# Altium integrated library Altium_WCAP-CSGP (rev22a).IntLib: 953 symbols (part 15 of 17)
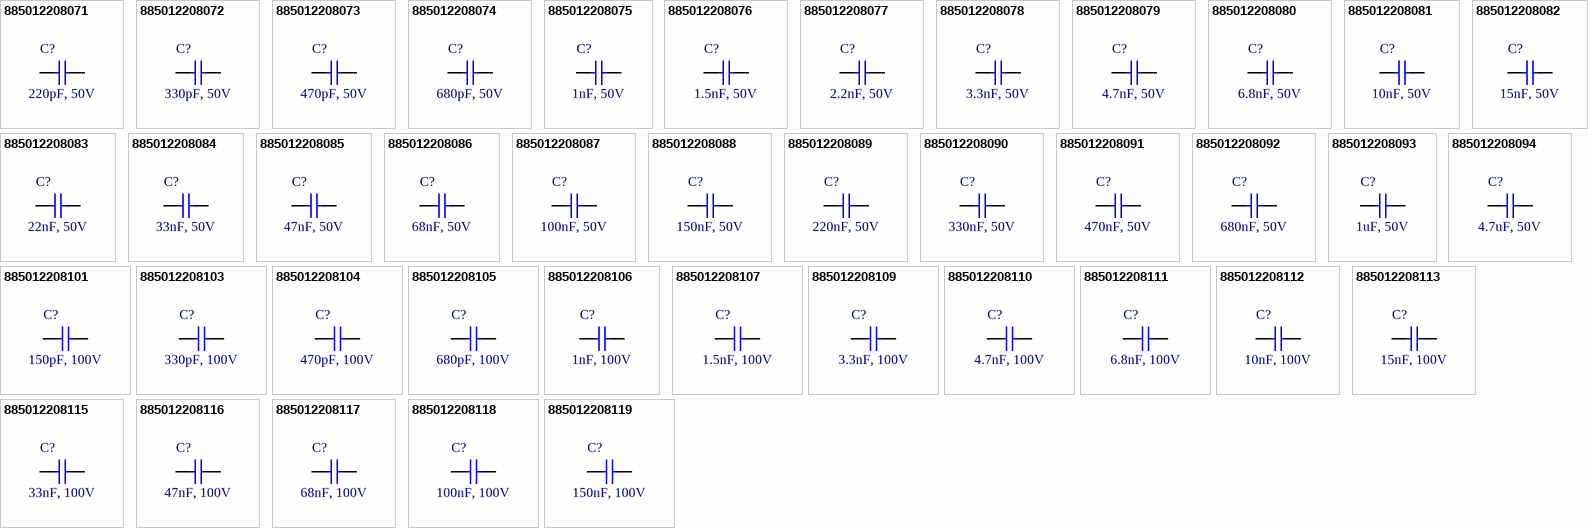
[diagram p41: symbols 885012208071 to 885012208119]

## 885012208119
designator C?, comment 150nF, 100V
WCAP-CSGP Multilayer Ceramic Chip Capacitor, General Purpose, size 1206, X7R, 150nF, 100V; Manufacturer: Wurth Elektronik; Manufacturer Part Number: 885012208119; Capacitance Tolerance: +/-10%; Dissipation Factor: 2.5%; Isolation Resistance: 0.7GOhm; Technical Reference: X7R1206154K100DFCT10000; Capacitance: 150nF; Ceramic Type: X7R; ComponentLink1Description: Manufacturer Link; ComponentLink1URL: http://www.we-online.de; ComponentLink2Description: Datasheet; ComponentLink2URL: https://www.we-online.com/catalog/datasheet/885012208119.pdf; Height: 1.6mm; Length: 3.2mm; Mounting Technology: SMT; Operating Temperature max.: 125C; Operating Temperature min.: -55C; Packaging: Tape and Reel; Rated Voltage: 100V; Size: 1206; Width: 1.6mm
footprint WCAP-CSGP_1206_L3.2W1.6H1.6
pins: 1, 2

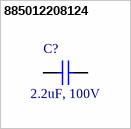
[diagram p22: symbol 885012208124]

## 885012208124
designator C?, comment 2.2uF, 100V
WCAP-CSGP Multilayer Ceramic Chip Capacitor, General Purpose, size 1206, X7R, 2.2uF, 100V; Manufacturer: Wurth Elektronik; Manufacturer Part Number: 885012208124; Capacitance Tolerance: +/-10%; Dissipation Factor: 5%; Isolation Resistance: 0.05GOhm; Technical Reference: X7R1206225K100DFCT10000; Capacitance: 2.2uF; Ceramic Type: X7R; ComponentLink1Description: Manufacturer Link; ComponentLink1URL: http://www.we-online.de; ComponentLink2Description: Datasheet; ComponentLink2URL: https://www.we-online.com/catalog/datasheet/885012208124.pdf; Height: 1.6mm; Length: 3.2mm; Mounting Technology: SMT; Operating Temperature max.: 125C; Operating Temperature min.: -55C; Packaging: Tape and Reel; Rated Voltage: 100V; Size: 1206; Width: 1.6mm
footprint WCAP-CSGP_1206_L3.2W1.6H1.6
pins: 1, 2


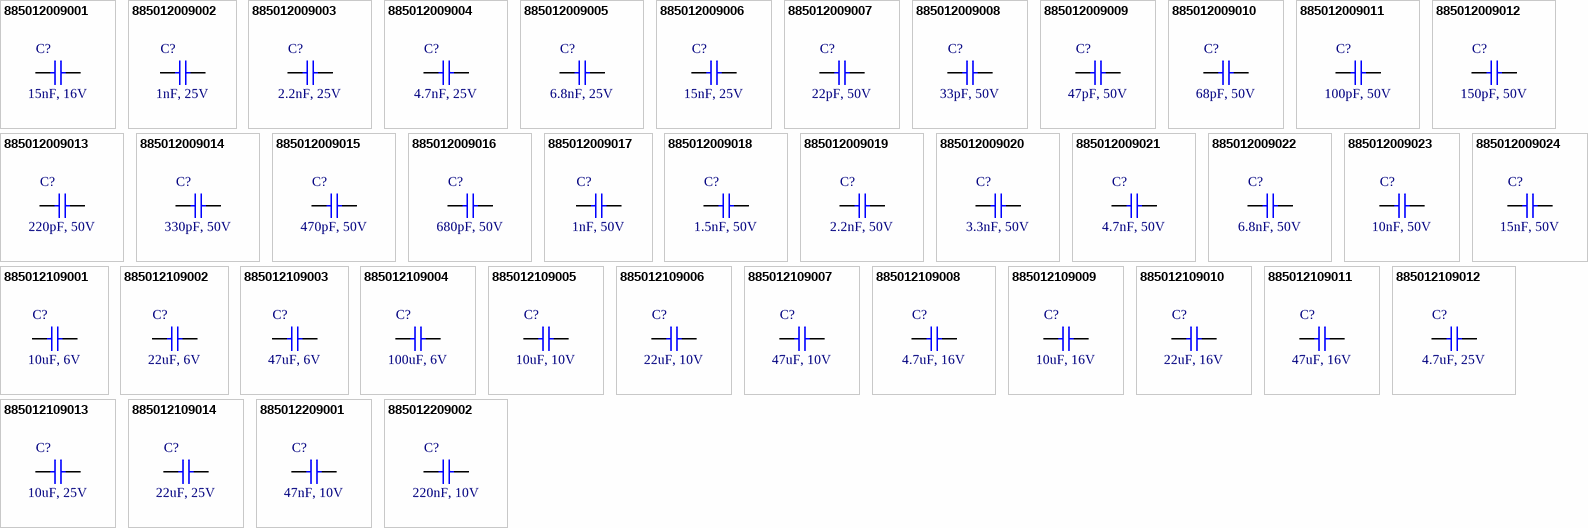
[diagram p23: symbols 885012009001 to 885012209002]

## 885012009001
designator C?, comment 15nF, 16V
WCAP-CSGP Multilayer Ceramic Chip Capacitor, General Purpose, size 1210, NP0, 15nF, 16V; Manufacturer: Wurth Elektronik; Manufacturer Part Number: 885012009001; Capacitance Tolerance: +/-5%; Isolation Resistance: 10GOhm; Q-Factor: 1000; Technical Reference: NP01210153J016DFCT10000; Capacitance: 15nF; Ceramic Type: NP0; ComponentLink1Description: Manufacturer Link; ComponentLink1URL: http://www.we-online.de; ComponentLink2Description: Datasheet; ComponentLink2URL: https://www.we-online.com/catalog/datasheet/885012009001.pdf; Height: 0.95mm; Length: 3.2mm; Mounting Technology: SMT; Operating Temperature max.: 125C; Operating Temperature min.: -55C; Packaging: Tape and Reel; Rated Voltage: 16V; Size: 1210; Width: 2.5mm
footprint WCAP-CSGP_1210_L3.2W2.5H0.95
pins: 1, 2

## 885012009002
designator C?, comment 1nF, 25V
WCAP-CSGP Multilayer Ceramic Chip Capacitor, General Purpose, size 1210, NP0, 1nF, 25V; Manufacturer: Wurth Elektronik; Manufacturer Part Number: 885012009002; Capacitance Tolerance: +/-5%; Isolation Resistance: 10GOhm; Q-Factor: 1000; Technical Reference: NP01210102J025DFCT10000; Capacitance: 1nF; Ceramic Type: NP0; ComponentLink1Description: Manufacturer Link; ComponentLink1URL: http://www.we-online.de; ComponentLink2Description: Datasheet; ComponentLink2URL: https://www.we-online.com/catalog/datasheet/885012009002.pdf; Height: 0.95mm; Length: 3.2mm; Mounting Technology: SMT; Operating Temperature max.: 125C; Operating Temperature min.: -55C; Packaging: Tape and Reel; Rated Voltage: 25V; Size: 1210; Width: 2.5mm
footprint WCAP-CSGP_1210_L3.2W2.5H0.95
pins: 1, 2

## 885012009003
designator C?, comment 2.2nF, 25V
WCAP-CSGP Multilayer Ceramic Chip Capacitor, General Purpose, size 1210, NP0, 2.2nF, 25V; Manufacturer: Wurth Elektronik; Manufacturer Part Number: 885012009003; Capacitance Tolerance: +/-5%; Isolation Resistance: 10GOhm; Q-Factor: 1000; Technical Reference: NP01210222J025DFCT10000; Capacitance: 2.2nF; Ceramic Type: NP0; ComponentLink1Description: Manufacturer Link; ComponentLink1URL: http://www.we-online.de; ComponentLink2Description: Datasheet; ComponentLink2URL: https://www.we-online.com/catalog/datasheet/885012009003.pdf; Height: 0.95mm; Length: 3.2mm; Mounting Technology: SMT; Operating Temperature max.: 125C; Operating Temperature min.: -55C; Packaging: Tape and Reel; Rated Voltage: 25V; Size: 1210; Width: 2.5mm
footprint WCAP-CSGP_1210_L3.2W2.5H0.95
pins: 1, 2

## 885012009004
designator C?, comment 4.7nF, 25V
WCAP-CSGP Multilayer Ceramic Chip Capacitor, General Purpose, size 1210, NP0, 4.7nF, 25V; Manufacturer: Wurth Elektronik; Manufacturer Part Number: 885012009004; Capacitance Tolerance: +/-5%; Isolation Resistance: 10GOhm; Q-Factor: 1000; Technical Reference: NP01210472J025DFCT10000; Capacitance: 4.7nF; Ceramic Type: NP0; ComponentLink1Description: Manufacturer Link; ComponentLink1URL: http://www.we-online.de; ComponentLink2Description: Datasheet; ComponentLink2URL: https://www.we-online.com/catalog/datasheet/885012009004.pdf; Height: 0.95mm; Length: 3.2mm; Mounting Technology: SMT; Operating Temperature max.: 125C; Operating Temperature min.: -55C; Packaging: Tape and Reel; Rated Voltage: 25V; Size: 1210; Width: 2.5mm
footprint WCAP-CSGP_1210_L3.2W2.5H0.95
pins: 1, 2

## 885012009005
designator C?, comment 6.8nF, 25V
WCAP-CSGP Multilayer Ceramic Chip Capacitor, General Purpose, size 1210, NP0, 6.8nF, 25V; Manufacturer: Wurth Elektronik; Manufacturer Part Number: 885012009005; Capacitance Tolerance: +/-5%; Isolation Resistance: 10GOhm; Q-Factor: 1000; Technical Reference: NP01210682J025DFCT10000; Capacitance: 6.8nF; Ceramic Type: NP0; ComponentLink1Description: Manufacturer Link; ComponentLink1URL: http://www.we-online.de; ComponentLink2Description: Datasheet; ComponentLink2URL: https://www.we-online.com/catalog/datasheet/885012009005.pdf; Height: 0.95mm; Length: 3.2mm; Mounting Technology: SMT; Operating Temperature max.: 125C; Operating Temperature min.: -55C; Packaging: Tape and Reel; Rated Voltage: 25V; Size: 1210; Width: 2.5mm
footprint WCAP-CSGP_1210_L3.2W2.5H0.95
pins: 1, 2

## 885012009006
designator C?, comment 15nF, 25V
WCAP-CSGP Multilayer Ceramic Chip Capacitor, General Purpose, size 1210, NP0, 15nF, 25V; Manufacturer: Wurth Elektronik; Manufacturer Part Number: 885012009006; Capacitance Tolerance: +/-5%; Isolation Resistance: 10GOhm; Q-Factor: 1000; Technical Reference: NP01210153J025DFCT10000; Capacitance: 15nF; Ceramic Type: NP0; ComponentLink1Description: Manufacturer Link; ComponentLink1URL: http://www.we-online.de; ComponentLink2Description: Datasheet; ComponentLink2URL: https://www.we-online.com/catalog/datasheet/885012009006.pdf; Height: 1.25mm; Length: 3.2mm; Mounting Technology: SMT; Operating Temperature max.: 125C; Operating Temperature min.: -55C; Packaging: Tape and Reel; Rated Voltage: 25V; Size: 1210; Width: 2.5mm
footprint WCAP-CSGP_1210_L3.2W2.5H1.25
pins: 1, 2

## 885012009007
designator C?, comment 22pF, 50V
WCAP-CSGP Multilayer Ceramic Chip Capacitor, General Purpose, size 1210, NP0, 22pF, 50V; Manufacturer: Wurth Elektronik; Manufacturer Part Number: 885012009007; Capacitance Tolerance: +/-5%; Isolation Resistance: 10GOhm; Q-Factor: 840; Technical Reference: NP01210220J050DFCT10000; Capacitance: 22pF; Ceramic Type: NP0; ComponentLink1Description: Manufacturer Link; ComponentLink1URL: http://www.we-online.de; ComponentLink2Description: Datasheet; ComponentLink2URL: https://www.we-online.com/catalog/datasheet/885012009007.pdf; Height: 0.95mm; Length: 3.2mm; Mounting Technology: SMT; Operating Temperature max.: 125C; Operating Temperature min.: -55C; Packaging: Tape and Reel; Rated Voltage: 50V; Size: 1210; Width: 2.5mm
footprint WCAP-CSGP_1210_L3.2W2.5H0.95
pins: 1, 2

## 885012009008
designator C?, comment 33pF, 50V
WCAP-CSGP Multilayer Ceramic Chip Capacitor, General Purpose, size 1210, NP0, 33pF, 50V; Manufacturer: Wurth Elektronik; Manufacturer Part Number: 885012009008; Capacitance Tolerance: +/-5%; Isolation Resistance: 10GOhm; Q-Factor: 1000; Technical Reference: NP01210330J050DFCT10000; Capacitance: 33pF; Ceramic Type: NP0; ComponentLink1Description: Manufacturer Link; ComponentLink1URL: http://www.we-online.de; ComponentLink2Description: Datasheet; ComponentLink2URL: https://www.we-online.com/catalog/datasheet/885012009008.pdf; Height: 0.95mm; Length: 3.2mm; Mounting Technology: SMT; Operating Temperature max.: 125C; Operating Temperature min.: -55C; Packaging: Tape and Reel; Rated Voltage: 50V; Size: 1210; Width: 2.5mm
footprint WCAP-CSGP_1210_L3.2W2.5H0.95
pins: 1, 2

## 885012009009
designator C?, comment 47pF, 50V
WCAP-CSGP Multilayer Ceramic Chip Capacitor, General Purpose, size 1210, NP0, 47pF, 50V; Manufacturer: Wurth Elektronik; Manufacturer Part Number: 885012009009; Capacitance Tolerance: +/-5%; Isolation Resistance: 10GOhm; Q-Factor: 1000; Technical Reference: NP01210470J050DFCT10000; Capacitance: 47pF; Ceramic Type: NP0; ComponentLink1Description: Manufacturer Link; ComponentLink1URL: http://www.we-online.de; ComponentLink2Description: Datasheet; ComponentLink2URL: https://www.we-online.com/catalog/datasheet/885012009009.pdf; Height: 0.95mm; Length: 3.2mm; Mounting Technology: SMT; Operating Temperature max.: 125C; Operating Temperature min.: -55C; Packaging: Tape and Reel; Rated Voltage: 50V; Size: 1210; Width: 2.5mm
footprint WCAP-CSGP_1210_L3.2W2.5H0.95
pins: 1, 2

## 885012009010
designator C?, comment 68pF, 50V
WCAP-CSGP Multilayer Ceramic Chip Capacitor, General Purpose, size 1210, NP0, 68pF, 50V; Manufacturer: Wurth Elektronik; Manufacturer Part Number: 885012009010; Capacitance Tolerance: +/-5%; Isolation Resistance: 10GOhm; Q-Factor: 1000; Technical Reference: NP01210680J050DFCT10000; Capacitance: 68pF; Ceramic Type: NP0; ComponentLink1Description: Manufacturer Link; ComponentLink1URL: http://www.we-online.de; ComponentLink2Description: Datasheet; ComponentLink2URL: https://www.we-online.com/catalog/datasheet/885012009010.pdf; Height: 0.95mm; Length: 3.2mm; Mounting Technology: SMT; Operating Temperature max.: 125C; Operating Temperature min.: -55C; Packaging: Tape and Reel; Rated Voltage: 50V; Size: 1210; Width: 2.5mm
footprint WCAP-CSGP_1210_L3.2W2.5H0.95
pins: 1, 2

## 885012009011
designator C?, comment 100pF, 50V
WCAP-CSGP Multilayer Ceramic Chip Capacitor, General Purpose, size 1210, NP0, 100pF, 50V; Manufacturer: Wurth Elektronik; Manufacturer Part Number: 885012009011; Capacitance Tolerance: +/-5%; Isolation Resistance: 10GOhm; Q-Factor: 1000; Technical Reference: NP01210101J050DFCT10000; Capacitance: 100pF; Ceramic Type: NP0; ComponentLink1Description: Manufacturer Link; ComponentLink1URL: http://www.we-online.de; ComponentLink2Description: Datasheet; ComponentLink2URL: https://www.we-online.com/catalog/datasheet/885012009011.pdf; Height: 0.95mm; Length: 3.2mm; Mounting Technology: SMT; Operating Temperature max.: 125C; Operating Temperature min.: -55C; Packaging: Tape and Reel; Rated Voltage: 50V; Size: 1210; Width: 2.5mm
footprint WCAP-CSGP_1210_L3.2W2.5H0.95
pins: 1, 2

## 885012009012
designator C?, comment 150pF, 50V
WCAP-CSGP Multilayer Ceramic Chip Capacitor, General Purpose, size 1210, NP0, 150pF, 50V; Manufacturer: Wurth Elektronik; Manufacturer Part Number: 885012009012; Capacitance Tolerance: +/-5%; Isolation Resistance: 10GOhm; Q-Factor: 1000; Technical Reference: NP01210151J050DFCT10000; Capacitance: 150pF; Ceramic Type: NP0; ComponentLink1Description: Manufacturer Link; ComponentLink1URL: http://www.we-online.de; ComponentLink2Description: Datasheet; ComponentLink2URL: https://www.we-online.com/catalog/datasheet/885012009012.pdf; Height: 0.95mm; Length: 3.2mm; Mounting Technology: SMT; Operating Temperature max.: 125C; Operating Temperature min.: -55C; Packaging: Tape and Reel; Rated Voltage: 50V; Size: 1210; Width: 2.5mm
footprint WCAP-CSGP_1210_L3.2W2.5H0.95
pins: 1, 2

## 885012009013
designator C?, comment 220pF, 50V
WCAP-CSGP Multilayer Ceramic Chip Capacitor, General Purpose, size 1210, NP0, 220pF, 50V; Manufacturer: Wurth Elektronik; Manufacturer Part Number: 885012009013; Capacitance Tolerance: +/-5%; Isolation Resistance: 10GOhm; Q-Factor: 1000; Technical Reference: NP01210221J050DFCT10000; Capacitance: 220pF; Ceramic Type: NP0; ComponentLink1Description: Manufacturer Link; ComponentLink1URL: http://www.we-online.de; ComponentLink2Description: Datasheet; ComponentLink2URL: https://www.we-online.com/catalog/datasheet/885012009013.pdf; Height: 0.95mm; Length: 3.2mm; Mounting Technology: SMT; Operating Temperature max.: 125C; Operating Temperature min.: -55C; Packaging: Tape and Reel; Rated Voltage: 50V; Size: 1210; Width: 2.5mm
footprint WCAP-CSGP_1210_L3.2W2.5H0.95
pins: 1, 2

## 885012009014
designator C?, comment 330pF, 50V
WCAP-CSGP Multilayer Ceramic Chip Capacitor, General Purpose, size 1210, NP0, 330pF, 50V; Manufacturer: Wurth Elektronik; Manufacturer Part Number: 885012009014; Capacitance Tolerance: +/-5%; Isolation Resistance: 10GOhm; Q-Factor: 1000; Technical Reference: NP01210331J050DFCT10000; Capacitance: 330pF; Ceramic Type: NP0; ComponentLink1Description: Manufacturer Link; ComponentLink1URL: http://www.we-online.de; ComponentLink2Description: Datasheet; ComponentLink2URL: https://www.we-online.com/catalog/datasheet/885012009014.pdf; Height: 0.95mm; Length: 3.2mm; Mounting Technology: SMT; Operating Temperature max.: 125C; Operating Temperature min.: -55C; Packaging: Tape and Reel; Rated Voltage: 50V; Size: 1210; Width: 2.5mm
footprint WCAP-CSGP_1210_L3.2W2.5H0.95
pins: 1, 2

## 885012009015
designator C?, comment 470pF, 50V
WCAP-CSGP Multilayer Ceramic Chip Capacitor, General Purpose, size 1210, NP0, 470pF, 50V; Manufacturer: Wurth Elektronik; Manufacturer Part Number: 885012009015; Capacitance Tolerance: +/-5%; Isolation Resistance: 10GOhm; Q-Factor: 1000; Technical Reference: NP01210471J050DFCT10000; Capacitance: 470pF; Ceramic Type: NP0; ComponentLink1Description: Manufacturer Link; ComponentLink1URL: http://www.we-online.de; ComponentLink2Description: Datasheet; ComponentLink2URL: https://www.we-online.com/catalog/datasheet/885012009015.pdf; Height: 0.95mm; Length: 3.2mm; Mounting Technology: SMT; Operating Temperature max.: 125C; Operating Temperature min.: -55C; Packaging: Tape and Reel; Rated Voltage: 50V; Size: 1210; Width: 2.5mm
footprint WCAP-CSGP_1210_L3.2W2.5H0.95
pins: 1, 2

## 885012009016
designator C?, comment 680pF, 50V
WCAP-CSGP Multilayer Ceramic Chip Capacitor, General Purpose, size 1210, NP0, 680pF, 50V; Manufacturer: Wurth Elektronik; Manufacturer Part Number: 885012009016; Capacitance Tolerance: +/-5%; Isolation Resistance: 10GOhm; Q-Factor: 1000; Technical Reference: NP01210681J050DFCT10000; Capacitance: 680pF; Ceramic Type: NP0; ComponentLink1Description: Manufacturer Link; ComponentLink1URL: http://www.we-online.de; ComponentLink2Description: Datasheet; ComponentLink2URL: https://www.we-online.com/catalog/datasheet/885012009016.pdf; Height: 0.95mm; Length: 3.2mm; Mounting Technology: SMT; Operating Temperature max.: 125C; Operating Temperature min.: -55C; Packaging: Tape and Reel; Rated Voltage: 50V; Size: 1210; Width: 2.5mm
footprint WCAP-CSGP_1210_L3.2W2.5H0.95
pins: 1, 2

## 885012009017
designator C?, comment 1nF, 50V
WCAP-CSGP Multilayer Ceramic Chip Capacitor, General Purpose, size 1210, NP0, 1nF, 50V; Manufacturer: Wurth Elektronik; Manufacturer Part Number: 885012009017; Capacitance Tolerance: +/-5%; Isolation Resistance: 10GOhm; Q-Factor: 1000; Technical Reference: NP01210102J050DFCT10000; Capacitance: 1nF; Ceramic Type: NP0; ComponentLink1Description: Manufacturer Link; ComponentLink1URL: http://www.we-online.de; ComponentLink2Description: Datasheet; ComponentLink2URL: https://www.we-online.com/catalog/datasheet/885012009017.pdf; Height: 0.95mm; Length: 3.2mm; Mounting Technology: SMT; Operating Temperature max.: 125C; Operating Temperature min.: -55C; Packaging: Tape and Reel; Rated Voltage: 50V; Size: 1210; Width: 2.5mm
footprint WCAP-CSGP_1210_L3.2W2.5H0.95
pins: 1, 2

## 885012009018
designator C?, comment 1.5nF, 50V
WCAP-CSGP Multilayer Ceramic Chip Capacitor, General Purpose, size 1210, NP0, 1.5nF, 50V; Manufacturer: Wurth Elektronik; Manufacturer Part Number: 885012009018; Capacitance Tolerance: +/-5%; Isolation Resistance: 10GOhm; Q-Factor: 1000; Technical Reference: NP01210152J050DFCT10000; Capacitance: 1.5nF; Ceramic Type: NP0; ComponentLink1Description: Manufacturer Link; ComponentLink1URL: http://www.we-online.de; ComponentLink2Description: Datasheet; ComponentLink2URL: https://www.we-online.com/catalog/datasheet/885012009018.pdf; Height: 0.95mm; Length: 3.2mm; Mounting Technology: SMT; Operating Temperature max.: 125C; Operating Temperature min.: -55C; Packaging: Tape and Reel; Rated Voltage: 50V; Size: 1210; Width: 2.5mm
footprint WCAP-CSGP_1210_L3.2W2.5H0.95
pins: 1, 2

## 885012009019
designator C?, comment 2.2nF, 50V
WCAP-CSGP Multilayer Ceramic Chip Capacitor, General Purpose, size 1210, NP0, 2.2nF, 50V; Manufacturer: Wurth Elektronik; Manufacturer Part Number: 885012009019; Capacitance Tolerance: +/-5%; Isolation Resistance: 10GOhm; Q-Factor: 1000; Technical Reference: NP01210222J050DFCT10000; Capacitance: 2.2nF; Ceramic Type: NP0; ComponentLink1Description: Manufacturer Link; ComponentLink1URL: http://www.we-online.de; ComponentLink2Description: Datasheet; ComponentLink2URL: https://www.we-online.com/catalog/datasheet/885012009019.pdf; Height: 0.95mm; Length: 3.2mm; Mounting Technology: SMT; Operating Temperature max.: 125C; Operating Temperature min.: -55C; Packaging: Tape and Reel; Rated Voltage: 50V; Size: 1210; Width: 2.5mm
footprint WCAP-CSGP_1210_L3.2W2.5H0.95
pins: 1, 2

## 885012009020
designator C?, comment 3.3nF, 50V
WCAP-CSGP Multilayer Ceramic Chip Capacitor, General Purpose, size 1210, NP0, 3.3nF, 50V; Manufacturer: Wurth Elektronik; Manufacturer Part Number: 885012009020; Capacitance Tolerance: +/-5%; Isolation Resistance: 10GOhm; Q-Factor: 1000; Technical Reference: NP01210332J050DFCT10000; Capacitance: 3.3nF; Ceramic Type: NP0; ComponentLink1Description: Manufacturer Link; ComponentLink1URL: http://www.we-online.de; ComponentLink2Description: Datasheet; ComponentLink2URL: https://www.we-online.com/catalog/datasheet/885012009020.pdf; Height: 0.95mm; Length: 3.2mm; Mounting Technology: SMT; Operating Temperature max.: 125C; Operating Temperature min.: -55C; Packaging: Tape and Reel; Rated Voltage: 50V; Size: 1210; Width: 2.5mm
footprint WCAP-CSGP_1210_L3.2W2.5H0.95
pins: 1, 2

## 885012009021
designator C?, comment 4.7nF, 50V
WCAP-CSGP Multilayer Ceramic Chip Capacitor, General Purpose, size 1210, NP0, 4.7nF, 50V; Manufacturer: Wurth Elektronik; Manufacturer Part Number: 885012009021; Capacitance Tolerance: +/-5%; Isolation Resistance: 10GOhm; Q-Factor: 1000; Technical Reference: NP01210472J050DFCT10000; Capacitance: 4.7nF; Ceramic Type: NP0; ComponentLink1Description: Manufacturer Link; ComponentLink1URL: http://www.we-online.de; ComponentLink2Description: Datasheet; ComponentLink2URL: https://www.we-online.com/catalog/datasheet/885012009021.pdf; Height: 0.95mm; Length: 3.2mm; Mounting Technology: SMT; Operating Temperature max.: 125C; Operating Temperature min.: -55C; Packaging: Tape and Reel; Rated Voltage: 50V; Size: 1210; Width: 2.5mm
footprint WCAP-CSGP_1210_L3.2W2.5H0.95
pins: 1, 2

## 885012009022
designator C?, comment 6.8nF, 50V
WCAP-CSGP Multilayer Ceramic Chip Capacitor, General Purpose, size 1210, NP0, 6.8nF, 50V; Manufacturer: Wurth Elektronik; Manufacturer Part Number: 885012009022; Capacitance Tolerance: +/-5%; Isolation Resistance: 10GOhm; Q-Factor: 1000; Technical Reference: NP01210682J050DFCT10000; Capacitance: 6.8nF; Ceramic Type: NP0; ComponentLink1Description: Manufacturer Link; ComponentLink1URL: http://www.we-online.de; ComponentLink2Description: Datasheet; ComponentLink2URL: https://www.we-online.com/catalog/datasheet/885012009022.pdf; Height: 0.95mm; Length: 3.2mm; Mounting Technology: SMT; Operating Temperature max.: 125C; Operating Temperature min.: -55C; Packaging: Tape and Reel; Rated Voltage: 50V; Size: 1210; Width: 2.5mm
footprint WCAP-CSGP_1210_L3.2W2.5H0.95
pins: 1, 2

## 885012009023
designator C?, comment 10nF, 50V
WCAP-CSGP Multilayer Ceramic Chip Capacitor, General Purpose, size 1210, NP0, 10nF, 50V; Manufacturer: Wurth Elektronik; Manufacturer Part Number: 885012009023; Capacitance Tolerance: +/-5%; Isolation Resistance: 10GOhm; Q-Factor: 1000; Technical Reference: NP01210103J050DFCT10000; Capacitance: 10nF; Ceramic Type: NP0; ComponentLink1Description: Manufacturer Link; ComponentLink1URL: http://www.we-online.de; ComponentLink2Description: Datasheet; ComponentLink2URL: https://www.we-online.com/catalog/datasheet/885012009023.pdf; Height: 0.95mm; Length: 3.2mm; Mounting Technology: SMT; Operating Temperature max.: 125C; Operating Temperature min.: -55C; Packaging: Tape and Reel; Rated Voltage: 50V; Size: 1210; Width: 2.5mm
footprint WCAP-CSGP_1210_L3.2W2.5H0.95
pins: 1, 2

## 885012009024
designator C?, comment 15nF, 50V
WCAP-CSGP Multilayer Ceramic Chip Capacitor, General Purpose, size 1210, NP0, 15nF, 50V; Manufacturer: Wurth Elektronik; Manufacturer Part Number: 885012009024; Capacitance Tolerance: +/-5%; Isolation Resistance: 10GOhm; Q-Factor: 1000; Technical Reference: NP01210153J050DFCT10000; Capacitance: 15nF; Ceramic Type: NP0; ComponentLink1Description: Manufacturer Link; ComponentLink1URL: http://www.we-online.de; ComponentLink2Description: Datasheet; ComponentLink2URL: https://www.we-online.com/catalog/datasheet/885012009024.pdf; Height: 1.25mm; Length: 3.2mm; Mounting Technology: SMT; Operating Temperature max.: 125C; Operating Temperature min.: -55C; Packaging: Tape and Reel; Rated Voltage: 50V; Size: 1210; Width: 2.5mm
footprint WCAP-CSGP_1210_L3.2W2.5H1.25
pins: 1, 2

## 885012109001
designator C?, comment 10uF, 6V
WCAP-CSGP Multilayer Ceramic Chip Capacitor, General Purpose, size 1210, X5R, 10uF, 6V; Manufacturer: Wurth Elektronik; Manufacturer Part Number: 885012109001; Capacitance Tolerance: +/-20%; Dissipation Factor: 10%; Isolation Resistance: 0.01GOhm; Technical Reference: X5R1210106M6R3DFCT10000; Capacitance: 10uF; Ceramic Type: X5R; ComponentLink1Description: Manufacturer Link; ComponentLink1URL: http://www.we-online.de; ComponentLink2Description: Datasheet; ComponentLink2URL: https://www.we-online.com/catalog/datasheet/885012109001.pdf; Height: 2mm; Length: 3.2mm; Mounting Technology: SMT; Operating Temperature max.: 85C; Operating Temperature min.: -55C; Packaging: Tape and Reel; Rated Voltage: 6V; Size: 1210; Width: 2.5mm
footprint WCAP-CSGP_1210_L3.2W2.5H2
pins: 1, 2

## 885012109002
designator C?, comment 22uF, 6V
WCAP-CSGP Multilayer Ceramic Chip Capacitor, General Purpose, size 1210, X5R, 22uF, 6V; Manufacturer: Wurth Elektronik; Manufacturer Part Number: 885012109002; Capacitance Tolerance: +/-20%; Dissipation Factor: 5%; Isolation Resistance: 0.02GOhm; Technical Reference: X5R1210226M6R3DFCT10000; Capacitance: 22uF; Ceramic Type: X5R; ComponentLink1Description: Manufacturer Link; ComponentLink1URL: http://www.we-online.de; ComponentLink2Description: Datasheet; ComponentLink2URL: https://www.we-online.com/catalog/datasheet/885012109002.pdf; Height: 2.5mm; Length: 3.2mm; Mounting Technology: SMT; Operating Temperature max.: 85C; Operating Temperature min.: -55C; Packaging: Tape and Reel; Rated Voltage: 6V; Size: 1210; Width: 2.5mm
footprint WCAP-CSGP_1210_L3.2W2.5H2.5
pins: 1, 2

## 885012109003
designator C?, comment 47uF, 6V
WCAP-CSGP Multilayer Ceramic Chip Capacitor, General Purpose, size 1210, X5R, 47uF, 6V; Manufacturer: Wurth Elektronik; Manufacturer Part Number: 885012109003; Capacitance Tolerance: +/-20%; Dissipation Factor: 10%; Isolation Resistance: 0.002GOhm; Technical Reference: X5R1210476M6R3DFCT10000; Capacitance: 47uF; Ceramic Type: X5R; ComponentLink1Description: Manufacturer Link; ComponentLink1URL: http://www.we-online.de; ComponentLink2Description: Datasheet; ComponentLink2URL: https://www.we-online.com/catalog/datasheet/885012109003.pdf; Height: 2.5mm; Length: 3.2mm; Mounting Technology: SMT; Operating Temperature max.: 85C; Operating Temperature min.: -55C; Packaging: Tape and Reel; Rated Voltage: 6V; Size: 1210; Width: 2.5mm
footprint WCAP-CSGP_1210_L3.2W2.5H2.5
pins: 1, 2

## 885012109004
designator C?, comment 100uF, 6V
WCAP-CSGP Multilayer Ceramic Chip Capacitor, General Purpose, size 1210, X5R, 100uF, 6V; Manufacturer: Wurth Elektronik; Manufacturer Part Number: 885012109004; Capacitance Tolerance: +/-20%; Dissipation Factor: 10%; Isolation Resistance: 0.001GOhm; Technical Reference: X5R1210107M6R3DFCT10000; Capacitance: 100uF; Ceramic Type: X5R; ComponentLink1Description: Manufacturer Link; ComponentLink1URL: http://www.we-online.de; ComponentLink2Description: Datasheet; ComponentLink2URL: https://www.we-online.com/catalog/datasheet/885012109004.pdf; Height: 2.5mm; Length: 3.2mm; Mounting Technology: SMT; Operating Temperature max.: 85C; Operating Temperature min.: -55C; Packaging: Tape and Reel; Rated Voltage: 6V; Size: 1210; Width: 2.5mm
footprint WCAP-CSGP_1210_L3.2W2.5H2.5
pins: 1, 2

## 885012109005
designator C?, comment 10uF, 10V
WCAP-CSGP Multilayer Ceramic Chip Capacitor, General Purpose, size 1210, X5R, 10uF, 10V; Manufacturer: Wurth Elektronik; Manufacturer Part Number: 885012109005; Capacitance Tolerance: +/-20%; Dissipation Factor: 5%; Isolation Resistance: 0.05GOhm; Technical Reference: X5R1210106M010DFCT10000; Capacitance: 10uF; Ceramic Type: X5R; ComponentLink1Description: Manufacturer Link; ComponentLink1URL: http://www.we-online.de; ComponentLink2Description: Datasheet; ComponentLink2URL: https://www.we-online.com/catalog/datasheet/885012109005.pdf; Height: 2mm; Length: 3.2mm; Mounting Technology: SMT; Operating Temperature max.: 85C; Operating Temperature min.: -55C; Packaging: Tape and Reel; Rated Voltage: 10V; Size: 1210; Width: 2.5mm
footprint WCAP-CSGP_1210_L3.2W2.5H2
pins: 1, 2

## 885012109006
designator C?, comment 22uF, 10V
WCAP-CSGP Multilayer Ceramic Chip Capacitor, General Purpose, size 1210, X5R, 22uF, 10V; Manufacturer: Wurth Elektronik; Manufacturer Part Number: 885012109006; Capacitance Tolerance: +/-20%; Dissipation Factor: 5%; Isolation Resistance: 0.02GOhm; Technical Reference: X5R1210226M010DFCT10000; Capacitance: 22uF; Ceramic Type: X5R; ComponentLink1Description: Manufacturer Link; ComponentLink1URL: http://www.we-online.de; ComponentLink2Description: Datasheet; ComponentLink2URL: https://www.we-online.com/catalog/datasheet/885012109006.pdf; Height: 2.5mm; Length: 3.2mm; Mounting Technology: SMT; Operating Temperature max.: 85C; Operating Temperature min.: -55C; Packaging: Tape and Reel; Rated Voltage: 10V; Size: 1210; Width: 2.5mm
footprint WCAP-CSGP_1210_L3.2W2.5H2.5
pins: 1, 2

## 885012109007
designator C?, comment 47uF, 10V
WCAP-CSGP Multilayer Ceramic Chip Capacitor, General Purpose, size 1210, X5R, 47uF, 10V; Manufacturer: Wurth Elektronik; Manufacturer Part Number: 885012109007; Capacitance Tolerance: +/-20%; Dissipation Factor: 10%; Isolation Resistance: 0.002GOhm; Technical Reference: X5R1210476M010DFCT10000; Capacitance: 47uF; Ceramic Type: X5R; ComponentLink1Description: Manufacturer Link; ComponentLink1URL: http://www.we-online.de; ComponentLink2Description: Datasheet; ComponentLink2URL: https://www.we-online.com/catalog/datasheet/885012109007.pdf; Height: 2.5mm; Length: 3.2mm; Mounting Technology: SMT; Operating Temperature max.: 85C; Operating Temperature min.: -55C; Packaging: Tape and Reel; Rated Voltage: 10V; Size: 1210; Width: 2.5mm
footprint WCAP-CSGP_1210_L3.2W2.5H2.5
pins: 1, 2

## 885012109008
designator C?, comment 4.7uF, 16V
WCAP-CSGP Multilayer Ceramic Chip Capacitor, General Purpose, size 1210, X5R, 4.7uF, 16V; Manufacturer: Wurth Elektronik; Manufacturer Part Number: 885012109008; Capacitance Tolerance: +/-20%; Dissipation Factor: 5%; Isolation Resistance: 0.1GOhm; Technical Reference: X5R1210475M016DFCT10000; Capacitance: 4.7uF; Ceramic Type: X5R; ComponentLink1Description: Manufacturer Link; ComponentLink1URL: http://www.we-online.de; ComponentLink2Description: Datasheet; ComponentLink2URL: https://www.we-online.com/catalog/datasheet/885012109008.pdf; Height: 2mm; Length: 3.2mm; Mounting Technology: SMT; Operating Temperature max.: 85C; Operating Temperature min.: -55C; Packaging: Tape and Reel; Rated Voltage: 16V; Size: 1210; Width: 2.5mm
footprint WCAP-CSGP_1210_L3.2W2.5H2
pins: 1, 2

## 885012109009
designator C?, comment 10uF, 16V
WCAP-CSGP Multilayer Ceramic Chip Capacitor, General Purpose, size 1210, X5R, 10uF, 16V; Manufacturer: Wurth Elektronik; Manufacturer Part Number: 885012109009; Capacitance Tolerance: +/-20%; Dissipation Factor: 5%; Isolation Resistance: 0.05GOhm; Technical Reference: X5R1210106M016DFCT10000; Capacitance: 10uF; Ceramic Type: X5R; ComponentLink1Description: Manufacturer Link; ComponentLink1URL: http://www.we-online.de; ComponentLink2Description: Datasheet; ComponentLink2URL: https://www.we-online.com/catalog/datasheet/885012109009.pdf; Height: 2mm; Length: 3.2mm; Mounting Technology: SMT; Operating Temperature max.: 85C; Operating Temperature min.: -55C; Packaging: Tape and Reel; Rated Voltage: 16V; Size: 1210; Width: 2.5mm
footprint WCAP-CSGP_1210_L3.2W2.5H2
pins: 1, 2

## 885012109010
designator C?, comment 22uF, 16V
WCAP-CSGP Multilayer Ceramic Chip Capacitor, General Purpose, size 1210, X5R, 22uF, 16V; Manufacturer: Wurth Elektronik; Manufacturer Part Number: 885012109010; Capacitance Tolerance: +/-20%; Dissipation Factor: 5%; Isolation Resistance: 0.02GOhm; Technical Reference: X5R1210226M016DFCT10000; Capacitance: 22uF; Ceramic Type: X5R; ComponentLink1Description: Manufacturer Link; ComponentLink1URL: http://www.we-online.de; ComponentLink2Description: Datasheet; ComponentLink2URL: https://www.we-online.com/catalog/datasheet/885012109010.pdf; Height: 2.5mm; Length: 3.2mm; Mounting Technology: SMT; Operating Temperature max.: 85C; Operating Temperature min.: -55C; Packaging: Tape and Reel; Rated Voltage: 16V; Size: 1210; Width: 2.5mm
footprint WCAP-CSGP_1210_L3.2W2.5H2.5
pins: 1, 2

## 885012109011
designator C?, comment 47uF, 16V
WCAP-CSGP Multilayer Ceramic Chip Capacitor, General Purpose, size 1210, X5R, 47uF, 16V; Manufacturer: Wurth Elektronik; Manufacturer Part Number: 885012109011; Capacitance Tolerance: +/-20%; Dissipation Factor: 10%; Isolation Resistance: 0.002GOhm; Technical Reference: X5R1210476M016DFCT10000; Capacitance: 47uF; Ceramic Type: X5R; ComponentLink1Description: Manufacturer Link; ComponentLink1URL: http://www.we-online.de; ComponentLink2Description: Datasheet; ComponentLink2URL: https://www.we-online.com/catalog/datasheet/885012109011.pdf; Height: 2.5mm; Length: 3.2mm; Mounting Technology: SMT; Operating Temperature max.: 85C; Operating Temperature min.: -55C; Packaging: Tape and Reel; Rated Voltage: 16V; Size: 1210; Width: 2.5mm
footprint WCAP-CSGP_1210_L3.2W2.5H2.5
pins: 1, 2

## 885012109012
designator C?, comment 4.7uF, 25V
WCAP-CSGP Multilayer Ceramic Chip Capacitor, General Purpose, size 1210, X5R, 4.7uF, 25V; Manufacturer: Wurth Elektronik; Manufacturer Part Number: 885012109012; Capacitance Tolerance: +/-20%; Dissipation Factor: 3.5%; Isolation Resistance: 0.1GOhm; Technical Reference: X5R1210475M025DFCT10000; Capacitance: 4.7uF; Ceramic Type: X5R; ComponentLink1Description: Manufacturer Link; ComponentLink1URL: http://www.we-online.de; ComponentLink2Description: Datasheet; ComponentLink2URL: https://www.we-online.com/catalog/datasheet/885012109012.pdf; Height: 2mm; Length: 3.2mm; Mounting Technology: SMT; Operating Temperature max.: 85C; Operating Temperature min.: -55C; Packaging: Tape and Reel; Rated Voltage: 25V; Size: 1210; Width: 2.5mm
footprint WCAP-CSGP_1210_L3.2W2.5H2
pins: 1, 2

## 885012109013
designator C?, comment 10uF, 25V
WCAP-CSGP Multilayer Ceramic Chip Capacitor, General Purpose, size 1210, X5R, 10uF, 25V; Manufacturer: Wurth Elektronik; Manufacturer Part Number: 885012109013; Capacitance Tolerance: +/-20%; Dissipation Factor: 10%; Isolation Resistance: 0.01GOhm; Technical Reference: X5R1210106M025DFCT10000; Capacitance: 10uF; Ceramic Type: X5R; ComponentLink1Description: Manufacturer Link; ComponentLink1URL: http://www.we-online.de; ComponentLink2Description: Datasheet; ComponentLink2URL: https://www.we-online.com/catalog/datasheet/885012109013.pdf; Height: 2mm; Length: 3.2mm; Mounting Technology: SMT; Operating Temperature max.: 85C; Operating Temperature min.: -55C; Packaging: Tape and Reel; Rated Voltage: 25V; Size: 1210; Width: 2.5mm
footprint WCAP-CSGP_1210_L3.2W2.5H2
pins: 1, 2

## 885012109014
designator C?, comment 22uF, 25V
WCAP-CSGP Multilayer Ceramic Chip Capacitor, General Purpose, size 1210, X5R, 22uF, 25V; Manufacturer: Wurth Elektronik; Manufacturer Part Number: 885012109014; Capacitance Tolerance: +/-20%; Dissipation Factor: 5%; Isolation Resistance: 0.005GOhm; Technical Reference: X5R1210226M025DFCT10000; Capacitance: 22uF; Ceramic Type: X5R; ComponentLink1Description: Manufacturer Link; ComponentLink1URL: http://www.we-online.de; ComponentLink2Description: Datasheet; ComponentLink2URL: https://www.we-online.com/catalog/datasheet/885012109014.pdf; Height: 2.5mm; Length: 3.2mm; Mounting Technology: SMT; Operating Temperature max.: 85C; Operating Temperature min.: -55C; Packaging: Tape and Reel; Rated Voltage: 25V; Size: 1210; Width: 2.5mm
footprint WCAP-CSGP_1210_L3.2W2.5H2.5
pins: 1, 2

## 885012209001
designator C?, comment 47nF, 10V
WCAP-CSGP Multilayer Ceramic Chip Capacitor, General Purpose, size 1210, X7R, 47nF, 10V; Manufacturer: Wurth Elektronik; Manufacturer Part Number: 885012209001; Capacitance Tolerance: +/-10%; Dissipation Factor: 5%; Isolation Resistance: 10GOhm; Technical Reference: X7R1210473K010DFCT10000; Capacitance: 47nF; Ceramic Type: X7R; ComponentLink1Description: Manufacturer Link; ComponentLink1URL: http://www.we-online.de; ComponentLink2Description: Datasheet; ComponentLink2URL: https://www.we-online.com/catalog/datasheet/885012209001.pdf; Height: 0.95mm; Length: 3.2mm; Mounting Technology: SMT; Operating Temperature max.: 125C; Operating Temperature min.: -55C; Packaging: Tape and Reel; Rated Voltage: 10V; Size: 1210; Width: 2.5mm
footprint WCAP-CSGP_1210_L3.2W2.5H0.95
pins: 1, 2

## 885012209002
designator C?, comment 220nF, 10V
WCAP-CSGP Multilayer Ceramic Chip Capacitor, General Purpose, size 1210, X7R, 220nF, 10V; Manufacturer: Wurth Elektronik; Manufacturer Part Number: 885012209002; Capacitance Tolerance: +/-10%; Dissipation Factor: 5%; Isolation Resistance: 2.3GOhm; Technical Reference: X7R1210224K010DFCT10000; Capacitance: 220nF; Ceramic Type: X7R; ComponentLink1Description: Manufacturer Link; ComponentLink1URL: http://www.we-online.de; ComponentLink2Description: Datasheet; ComponentLink2URL: https://www.we-online.com/catalog/datasheet/885012209002.pdf; Height: 0.95mm; Length: 3.2mm; Mounting Technology: SMT; Operating Temperature max.: 125C; Operating Temperature min.: -55C; Packaging: Tape and Reel; Rated Voltage: 10V; Size: 1210; Width: 2.5mm
footprint WCAP-CSGP_1210_L3.2W2.5H0.95
pins: 1, 2

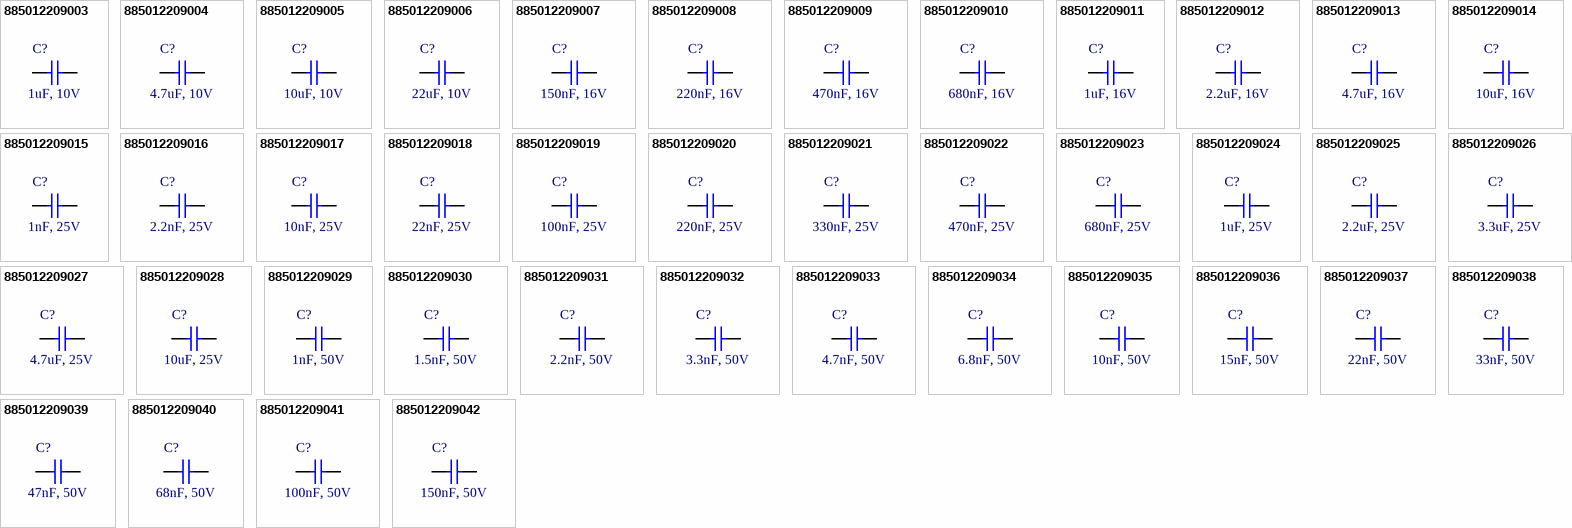
[diagram p24: symbols 885012209003 to 885012209042]

## 885012209003
designator C?, comment 1uF, 10V
WCAP-CSGP Multilayer Ceramic Chip Capacitor, General Purpose, size 1210, X7R, 1uF, 10V; Manufacturer: Wurth Elektronik; Manufacturer Part Number: 885012209003; Capacitance Tolerance: +/-10%; Dissipation Factor: 5%; Isolation Resistance: 0.5GOhm; Technical Reference: X7R1210105K010DFCT10000; Capacitance: 1uF; Ceramic Type: X7R; ComponentLink1Description: Manufacturer Link; ComponentLink1URL: http://www.we-online.de; ComponentLink2Description: Datasheet; ComponentLink2URL: https://www.we-online.com/catalog/datasheet/885012209003.pdf; Height: 1.25mm; Length: 3.2mm; Mounting Technology: SMT; Operating Temperature max.: 125C; Operating Temperature min.: -55C; Packaging: Tape and Reel; Rated Voltage: 10V; Size: 1210; Width: 2.5mm
footprint WCAP-CSGP_1210_L3.2W2.5H1.25
pins: 1, 2

## 885012209004
designator C?, comment 4.7uF, 10V
WCAP-CSGP Multilayer Ceramic Chip Capacitor, General Purpose, size 1210, X7R, 4.7uF, 10V; Manufacturer: Wurth Elektronik; Manufacturer Part Number: 885012209004; Capacitance Tolerance: +/-10%; Dissipation Factor: 5%; Isolation Resistance: 0.1GOhm; Technical Reference: X7R1210475K010DFCT10000; Capacitance: 4.7uF; Ceramic Type: X7R; ComponentLink1Description: Manufacturer Link; ComponentLink1URL: http://www.we-online.de; ComponentLink2Description: Datasheet; ComponentLink2URL: https://www.we-online.com/catalog/datasheet/885012209004.pdf; Height: 2mm; Length: 3.2mm; Mounting Technology: SMT; Operating Temperature max.: 125C; Operating Temperature min.: -55C; Packaging: Tape and Reel; Rated Voltage: 10V; Size: 1210; Width: 2.5mm
footprint WCAP-CSGP_1210_L3.2W2.5H2
pins: 1, 2

## 885012209005
designator C?, comment 10uF, 10V
WCAP-CSGP Multilayer Ceramic Chip Capacitor, General Purpose, size 1210, X7R, 10uF, 10V; Manufacturer: Wurth Elektronik; Manufacturer Part Number: 885012209005; Capacitance Tolerance: +/-10%; Dissipation Factor: 5%; Isolation Resistance: 0.1GOhm; Technical Reference: X7R1210106K010DFCT10000; Capacitance: 10uF; Ceramic Type: X7R; ComponentLink1Description: Manufacturer Link; ComponentLink1URL: http://www.we-online.de; ComponentLink2Description: Datasheet; ComponentLink2URL: https://www.we-online.com/catalog/datasheet/885012209005.pdf; Height: 2mm; Length: 3.2mm; Mounting Technology: SMT; Operating Temperature max.: 125C; Operating Temperature min.: -55C; Packaging: Tape and Reel; Rated Voltage: 10V; Size: 1210; Width: 2.5mm
footprint WCAP-CSGP_1210_L3.2W2.5H2
pins: 1, 2

## 885012209006
designator C?, comment 22uF, 10V
WCAP-CSGP Multilayer Ceramic Chip Capacitor, General Purpose, size 1210, X7R, 22uF, 10V; Manufacturer: Wurth Elektronik; Manufacturer Part Number: 885012209006; Capacitance Tolerance: +/-10%; Dissipation Factor: 5%; Isolation Resistance: 0.02GOhm; Technical Reference: X7R1210226K010DFCT10000; Capacitance: 22uF; Ceramic Type: X7R; ComponentLink1Description: Manufacturer Link; ComponentLink1URL: http://www.we-online.de; ComponentLink2Description: Datasheet; ComponentLink2URL: https://www.we-online.com/catalog/datasheet/885012209006.pdf; Height: 2.5mm; Length: 3.2mm; Mounting Technology: SMT; Operating Temperature max.: 125C; Operating Temperature min.: -55C; Packaging: Tape and Reel; Rated Voltage: 10V; Size: 1210; Width: 2.5mm
footprint WCAP-CSGP_1210_L3.2W2.5H2.5
pins: 1, 2

## 885012209007
designator C?, comment 150nF, 16V
WCAP-CSGP Multilayer Ceramic Chip Capacitor, General Purpose, size 1210, X7R, 150nF, 16V; Manufacturer: Wurth Elektronik; Manufacturer Part Number: 885012209007; Capacitance Tolerance: +/-10%; Dissipation Factor: 3.5%; Isolation Resistance: 3.3GOhm; Technical Reference: X7R1210154K016DFCT10000; Capacitance: 150nF; Ceramic Type: X7R; ComponentLink1Description: Manufacturer Link; ComponentLink1URL: http://www.we-online.de; ComponentLink2Description: Datasheet; ComponentLink2URL: https://www.we-online.com/catalog/datasheet/885012209007.pdf; Height: 0.95mm; Length: 3.2mm; Mounting Technology: SMT; Operating Temperature max.: 125C; Operating Temperature min.: -55C; Packaging: Tape and Reel; Rated Voltage: 16V; Size: 1210; Width: 2.5mm
footprint WCAP-CSGP_1210_L3.2W2.5H0.95
pins: 1, 2

## 885012209008
designator C?, comment 220nF, 16V
WCAP-CSGP Multilayer Ceramic Chip Capacitor, General Purpose, size 1210, X7R, 220nF, 16V; Manufacturer: Wurth Elektronik; Manufacturer Part Number: 885012209008; Capacitance Tolerance: +/-10%; Dissipation Factor: 3.5%; Isolation Resistance: 2.3GOhm; Technical Reference: X7R1210224K016DFCT10000; Capacitance: 220nF; Ceramic Type: X7R; ComponentLink1Description: Manufacturer Link; ComponentLink1URL: http://www.we-online.de; ComponentLink2Description: Datasheet; ComponentLink2URL: https://www.we-online.com/catalog/datasheet/885012209008.pdf; Height: 0.95mm; Length: 3.2mm; Mounting Technology: SMT; Operating Temperature max.: 125C; Operating Temperature min.: -55C; Packaging: Tape and Reel; Rated Voltage: 16V; Size: 1210; Width: 2.5mm
footprint WCAP-CSGP_1210_L3.2W2.5H0.95
pins: 1, 2

## 885012209009
designator C?, comment 470nF, 16V
WCAP-CSGP Multilayer Ceramic Chip Capacitor, General Purpose, size 1210, X7R, 470nF, 16V; Manufacturer: Wurth Elektronik; Manufacturer Part Number: 885012209009; Capacitance Tolerance: +/-10%; Dissipation Factor: 3.5%; Isolation Resistance: 1.1GOhm; Technical Reference: X7R1210474K016DFCT10000; Capacitance: 470nF; Ceramic Type: X7R; ComponentLink1Description: Manufacturer Link; ComponentLink1URL: http://www.we-online.de; ComponentLink2Description: Datasheet; ComponentLink2URL: https://www.we-online.com/catalog/datasheet/885012209009.pdf; Height: 0.95mm; Length: 3.2mm; Mounting Technology: SMT; Operating Temperature max.: 125C; Operating Temperature min.: -55C; Packaging: Tape and Reel; Rated Voltage: 16V; Size: 1210; Width: 2.5mm
footprint WCAP-CSGP_1210_L3.2W2.5H0.95
pins: 1, 2

## 885012209010
designator C?, comment 680nF, 16V
WCAP-CSGP Multilayer Ceramic Chip Capacitor, General Purpose, size 1210, X7R, 680nF, 16V; Manufacturer: Wurth Elektronik; Manufacturer Part Number: 885012209010; Capacitance Tolerance: +/-10%; Dissipation Factor: 3.5%; Isolation Resistance: 0.7GOhm; Technical Reference: X7R1210684K016DFCT10000; Capacitance: 680nF; Ceramic Type: X7R; ComponentLink1Description: Manufacturer Link; ComponentLink1URL: http://www.we-online.de; ComponentLink2Description: Datasheet; ComponentLink2URL: https://www.we-online.com/catalog/datasheet/885012209010.pdf; Height: 1.25mm; Length: 3.2mm; Mounting Technology: SMT; Operating Temperature max.: 125C; Operating Temperature min.: -55C; Packaging: Tape and Reel; Rated Voltage: 16V; Size: 1210; Width: 2.5mm
footprint WCAP-CSGP_1210_L3.2W2.5H1.25
pins: 1, 2

## 885012209011
designator C?, comment 1uF, 16V
WCAP-CSGP Multilayer Ceramic Chip Capacitor, General Purpose, size 1210, X7R, 1uF, 16V; Manufacturer: Wurth Elektronik; Manufacturer Part Number: 885012209011; Capacitance Tolerance: +/-10%; Dissipation Factor: 3.5%; Isolation Resistance: 0.5GOhm; Technical Reference: X7R1210105K016DFCT10000; Capacitance: 1uF; Ceramic Type: X7R; ComponentLink1Description: Manufacturer Link; ComponentLink1URL: http://www.we-online.de; ComponentLink2Description: Datasheet; ComponentLink2URL: https://www.we-online.com/catalog/datasheet/885012209011.pdf; Height: 1.25mm; Length: 3.2mm; Mounting Technology: SMT; Operating Temperature max.: 125C; Operating Temperature min.: -55C; Packaging: Tape and Reel; Rated Voltage: 16V; Size: 1210; Width: 2.5mm
footprint WCAP-CSGP_1210_L3.2W2.5H1.25
pins: 1, 2

## 885012209012
designator C?, comment 2.2uF, 16V
WCAP-CSGP Multilayer Ceramic Chip Capacitor, General Purpose, size 1210, X7R, 2.2uF, 16V; Manufacturer: Wurth Elektronik; Manufacturer Part Number: 885012209012; Capacitance Tolerance: +/-10%; Dissipation Factor: 3.5%; Isolation Resistance: 0.2GOhm; Technical Reference: X7R1210225K016DFCT10000; Capacitance: 2.2uF; Ceramic Type: X7R; ComponentLink1Description: Manufacturer Link; ComponentLink1URL: http://www.we-online.de; ComponentLink2Description: Datasheet; ComponentLink2URL: https://www.we-online.com/catalog/datasheet/885012209012.pdf; Height: 2mm; Length: 3.2mm; Mounting Technology: SMT; Operating Temperature max.: 125C; Operating Temperature min.: -55C; Packaging: Tape and Reel; Rated Voltage: 16V; Size: 1210; Width: 2.5mm
footprint WCAP-CSGP_1210_L3.2W2.5H2
pins: 1, 2

## 885012209013
designator C?, comment 4.7uF, 16V
WCAP-CSGP Multilayer Ceramic Chip Capacitor, General Purpose, size 1210, X7R, 4.7uF, 16V; Manufacturer: Wurth Elektronik; Manufacturer Part Number: 885012209013; Capacitance Tolerance: +/-10%; Dissipation Factor: 5%; Isolation Resistance: 0.1GOhm; Technical Reference: X7R1210475K016DFCT10000; Capacitance: 4.7uF; Ceramic Type: X7R; ComponentLink1Description: Manufacturer Link; ComponentLink1URL: http://www.we-online.de; ComponentLink2Description: Datasheet; ComponentLink2URL: https://www.we-online.com/catalog/datasheet/885012209013.pdf; Height: 2mm; Length: 3.2mm; Mounting Technology: SMT; Operating Temperature max.: 125C; Operating Temperature min.: -55C; Packaging: Tape and Reel; Rated Voltage: 16V; Size: 1210; Width: 2.5mm
footprint WCAP-CSGP_1210_L3.2W2.5H2
pins: 1, 2

## 885012209014
designator C?, comment 10uF, 16V
WCAP-CSGP Multilayer Ceramic Chip Capacitor, General Purpose, size 1210, X7R, 10uF, 16V; Manufacturer: Wurth Elektronik; Manufacturer Part Number: 885012209014; Capacitance Tolerance: +/-10%; Dissipation Factor: 5%; Isolation Resistance: 0.1GOhm; Technical Reference: X7R1210106K016DFCT10000; Capacitance: 10uF; Ceramic Type: X7R; ComponentLink1Description: Manufacturer Link; ComponentLink1URL: http://www.we-online.de; ComponentLink2Description: Datasheet; ComponentLink2URL: https://www.we-online.com/catalog/datasheet/885012209014.pdf; Height: 2mm; Length: 3.2mm; Mounting Technology: SMT; Operating Temperature max.: 125C; Operating Temperature min.: -55C; Packaging: Tape and Reel; Rated Voltage: 16V; Size: 1210; Width: 2.5mm
footprint WCAP-CSGP_1210_L3.2W2.5H2
pins: 1, 2

## 885012209015
designator C?, comment 1nF, 25V
WCAP-CSGP Multilayer Ceramic Chip Capacitor, General Purpose, size 1210, X7R, 1nF, 25V; Manufacturer: Wurth Elektronik; Manufacturer Part Number: 885012209015; Capacitance Tolerance: +/-10%; Dissipation Factor: 3.5%; Isolation Resistance: 10GOhm; Technical Reference: X7R1210102K025DFCT10000; Capacitance: 1nF; Ceramic Type: X7R; ComponentLink1Description: Manufacturer Link; ComponentLink1URL: http://www.we-online.de; ComponentLink2Description: Datasheet; ComponentLink2URL: https://www.we-online.com/catalog/datasheet/885012209015.pdf; Height: 0.95mm; Length: 3.2mm; Mounting Technology: SMT; Operating Temperature max.: 125C; Operating Temperature min.: -55C; Packaging: Tape and Reel; Rated Voltage: 25V; Size: 1210; Width: 2.5mm
footprint WCAP-CSGP_1210_L3.2W2.5H0.95
pins: 1, 2

## 885012209016
designator C?, comment 2.2nF, 25V
WCAP-CSGP Multilayer Ceramic Chip Capacitor, General Purpose, size 1210, X7R, 2.2nF, 25V; Manufacturer: Wurth Elektronik; Manufacturer Part Number: 885012209016; Capacitance Tolerance: +/-10%; Dissipation Factor: 3.5%; Isolation Resistance: 10GOhm; Technical Reference: X7R1210222K025DFCT10000; Capacitance: 2.2nF; Ceramic Type: X7R; ComponentLink1Description: Manufacturer Link; ComponentLink1URL: http://www.we-online.de; ComponentLink2Description: Datasheet; ComponentLink2URL: https://www.we-online.com/catalog/datasheet/885012209016.pdf; Height: 0.95mm; Length: 3.2mm; Mounting Technology: SMT; Operating Temperature max.: 125C; Operating Temperature min.: -55C; Packaging: Tape and Reel; Rated Voltage: 25V; Size: 1210; Width: 2.5mm
footprint WCAP-CSGP_1210_L3.2W2.5H0.95
pins: 1, 2

## 885012209017
designator C?, comment 10nF, 25V
WCAP-CSGP Multilayer Ceramic Chip Capacitor, General Purpose, size 1210, X7R, 10nF, 25V; Manufacturer: Wurth Elektronik; Manufacturer Part Number: 885012209017; Capacitance Tolerance: +/-10%; Dissipation Factor: 3.5%; Isolation Resistance: 10GOhm; Technical Reference: X7R1210103K025DFCT10000; Capacitance: 10nF; Ceramic Type: X7R; ComponentLink1Description: Manufacturer Link; ComponentLink1URL: http://www.we-online.de; ComponentLink2Description: Datasheet; ComponentLink2URL: https://www.we-online.com/catalog/datasheet/885012209017.pdf; Height: 0.95mm; Length: 3.2mm; Mounting Technology: SMT; Operating Temperature max.: 125C; Operating Temperature min.: -55C; Packaging: Tape and Reel; Rated Voltage: 25V; Size: 1210; Width: 2.5mm
footprint WCAP-CSGP_1210_L3.2W2.5H0.95
pins: 1, 2

## 885012209018
designator C?, comment 22nF, 25V
WCAP-CSGP Multilayer Ceramic Chip Capacitor, General Purpose, size 1210, X7R, 22nF, 25V; Manufacturer: Wurth Elektronik; Manufacturer Part Number: 885012209018; Capacitance Tolerance: +/-10%; Dissipation Factor: 3.5%; Isolation Resistance: 10GOhm; Technical Reference: X7R1210223K025DFCT10000; Capacitance: 22nF; Ceramic Type: X7R; ComponentLink1Description: Manufacturer Link; ComponentLink1URL: http://www.we-online.de; ComponentLink2Description: Datasheet; ComponentLink2URL: https://www.we-online.com/catalog/datasheet/885012209018.pdf; Height: 0.95mm; Length: 3.2mm; Mounting Technology: SMT; Operating Temperature max.: 125C; Operating Temperature min.: -55C; Packaging: Tape and Reel; Rated Voltage: 25V; Size: 1210; Width: 2.5mm
footprint WCAP-CSGP_1210_L3.2W2.5H0.95
pins: 1, 2

## 885012209019
designator C?, comment 100nF, 25V
WCAP-CSGP Multilayer Ceramic Chip Capacitor, General Purpose, size 1210, X7R, 100nF, 25V; Manufacturer: Wurth Elektronik; Manufacturer Part Number: 885012209019; Capacitance Tolerance: +/-10%; Dissipation Factor: 3.5%; Isolation Resistance: 5GOhm; Technical Reference: X7R1210104K025DFCT10000; Capacitance: 100nF; Ceramic Type: X7R; ComponentLink1Description: Manufacturer Link; ComponentLink1URL: http://www.we-online.de; ComponentLink2Description: Datasheet; ComponentLink2URL: https://www.we-online.com/catalog/datasheet/885012209019.pdf; Height: 0.95mm; Length: 3.2mm; Mounting Technology: SMT; Operating Temperature max.: 125C; Operating Temperature min.: -55C; Packaging: Tape and Reel; Rated Voltage: 25V; Size: 1210; Width: 2.5mm
footprint WCAP-CSGP_1210_L3.2W2.5H0.95
pins: 1, 2